# Altium integrated library Linear Technology PMIC-Switching Reg LTC1174-LTC3901.IntLib: 2647 symbols (part 228 of 310)
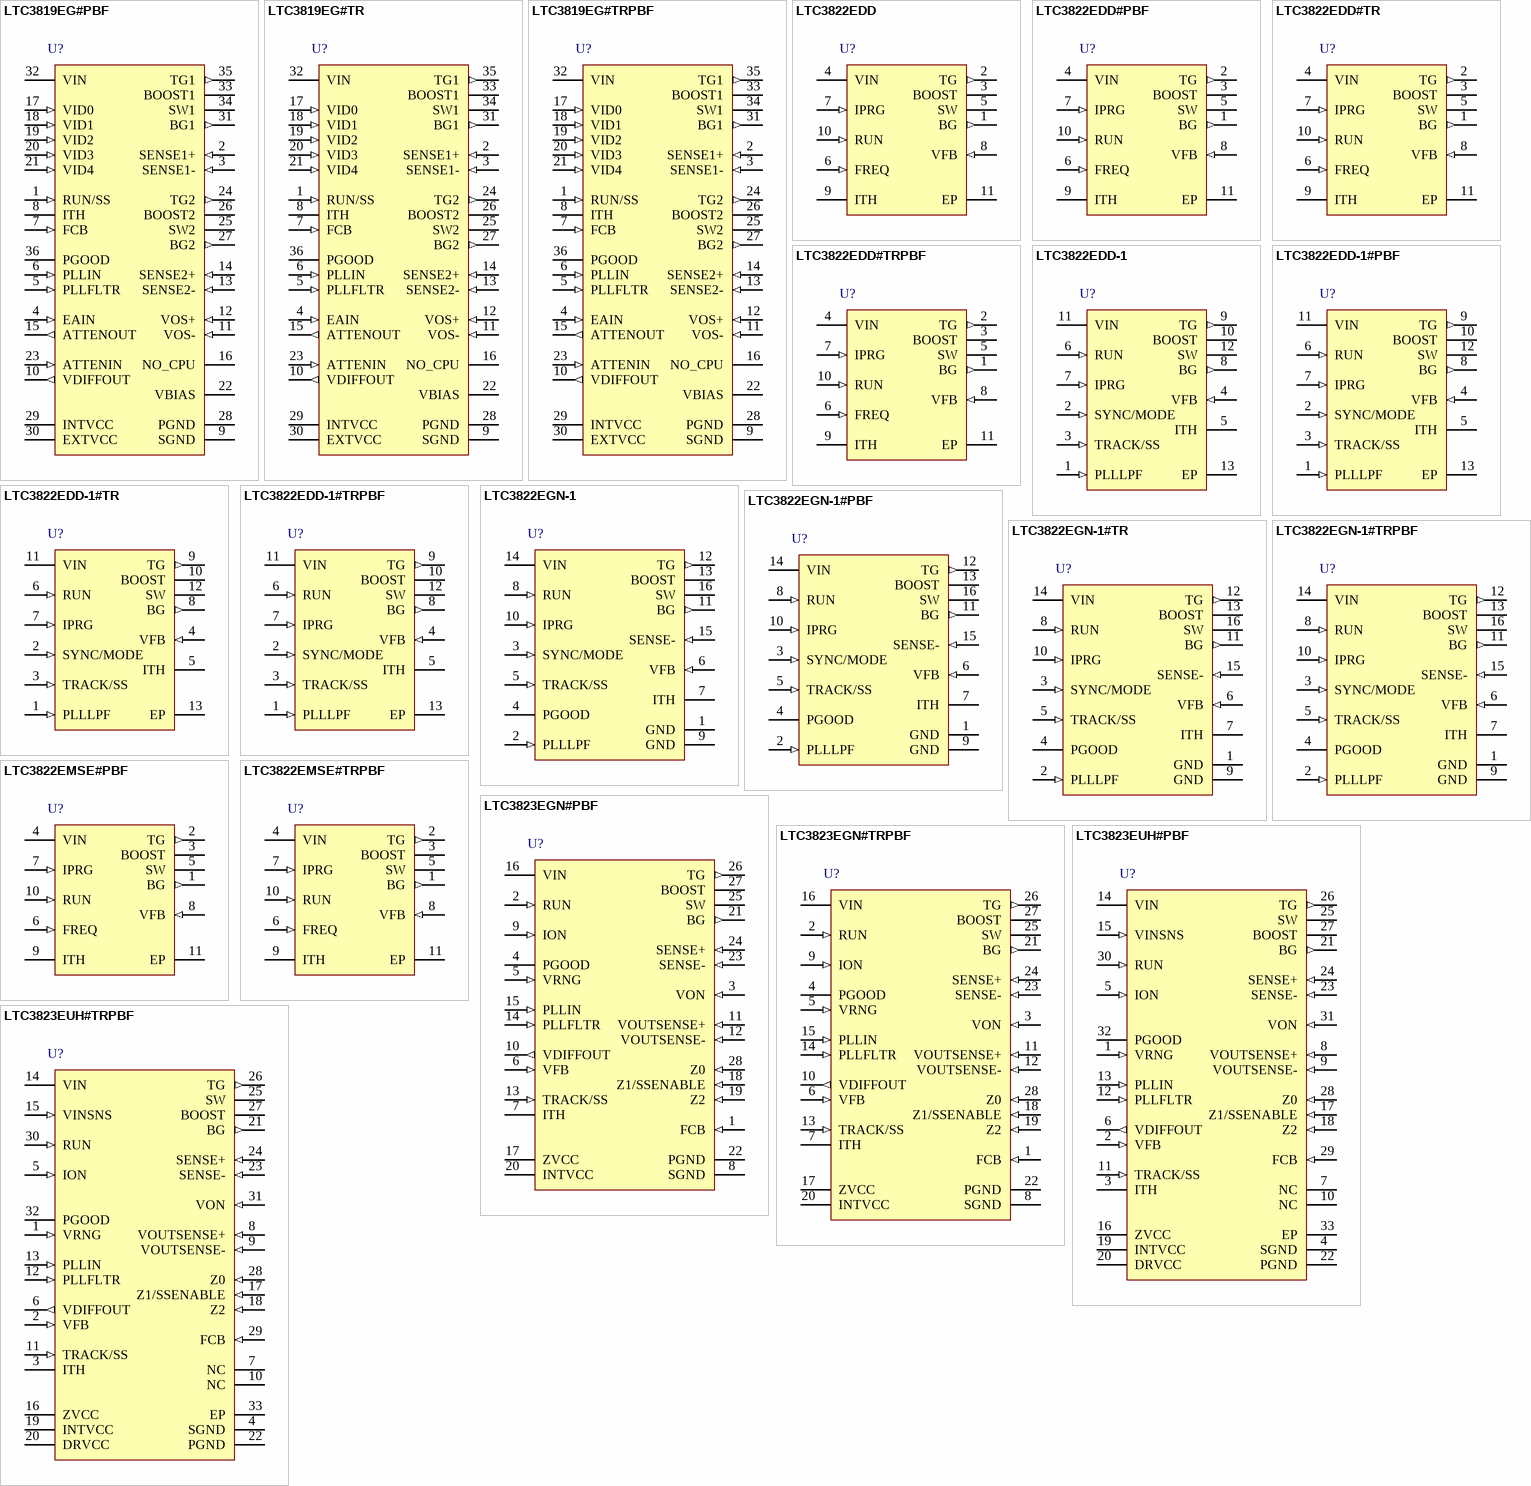
[diagram p349: symbols LTC3819EG#PBF to LTC3823EUH#TRPBF]

## LTC3822EMSE#PBF
designator U?
No Rsense, Low Input Voltage, Synchronous Step-Down DC/DC Controller, 10-pin SOP (MSE-10-EDP), -40 to 85 degC, Pb-Free; Manufacturer: Linear Technology; PartNumber: LTC3822EMSE#PBF; Number of Outputs: 1; PackageReference: MSE-10; PackageDescription: 10-Pin Plastic MSOP, Exposed Die Pad, Body 3 x 3 mm, Pitch 0.5 mm; Supplier 1: Digi-Key; Supplier Part Number 1: LTC3822EMSE#PBF-ND; RoHS: TRUE
footprint LT-MSE-10-EDP_N (SOP, 10-Leads, Body 3.1x3.1mm, Pitch 0.5mm, Thermal Pad 1.88x1.68mm, IPC Medium Density)
footprint LT-MSE-10-EDP_L (SOP, 10-Leads, Body 3.1x3.1mm, Pitch 0.5mm, Thermal Pad 1.88x1.68mm, IPC High Density)
footprint LT-MSE-10-EDP_M (SOP, 10-Leads, Body 3.1x3.1mm, Pitch 0.5mm, Thermal Pad 1.88x1.68mm, IPC Low Density)
pins: 1 BG (out) "Bottom Gate Driver Output. This pin drives the gate of the external bottom MOSFET. This pin has an output swing from GND to BOOST.", 2 TG (out) "Top Gate Driver Output. This pin drives the gate of the external topside MOSFET. This pin has an output swing from GND to BOOST.", 3 BOOST "Positive Supply Pin for the Gate Driver Circuitry. A bootstrapped capacitor, charged through an external Schottky diode from VIN, is connected between the BOOST and SW pins. Voltage swing at the BOOST pin is from VIN to 2VIN.(See Datasheet)", 4 VIN (power) "This pin powers the control circuitry and serves as the positive input to the differential current comparator. Pin 4 must not be locally decoupled with a capacitor as it is also the positive terminal for current sense.", 5 SW "Switch Node Connection to Inductor. This pin is also the negative input to the differential current comparator and an input to the reverse current comparator. Normally this pin is connected to the source of the external (See Datasheet)", 6 FREQ (in) "This pin serves as the frequency select input. Tying this pin to GND selects 300kHz operation; tying this pin to VIN selects 750kHz operation. Floating this pin selects 550kHz operation.", 7 IPRG (in) "Selects maximum peak sense voltage between the VIN and SW pins (i.e., the maximum allowed drop across the external top-side MOSFET). Tie to VIN, GND or float to select 200mV, 82mV or 120mV respectively.", 8 VFB (in) "Feedback Pin. This pin receives the remotely sensed feedback voltage from an external resistor divider across the output.", 9 ITH "Current Threshold and Error Amplifier Compensation Point. Nominal operating range on this pin is from 0.7V to 2V. The voltage on this pin determines the threshold of the main current comparator.", 10 RUN (in) "Run Control Input. Forcing this pin below 1.1V shuts down the chip. Driving this pin to VIN or releasing this pin enables the chip to start-up with the internal soft-start", 11 EP (power) "Exposed Pad. The exposed pad is ground and must be soldered to the PCB ground for electrical contact and optimal thermal performance."